# Altium footprint library Battery.PcbLib: 4 footprints
Each footprint in its own frame and in the unit in brackets; x right, y up, seen from the top. Pads: shape width x height; smd on the part's side, far side on the other; paste and mask are expansions set on the pad; w line width, h text height; cw(c..) or ccw(c..) is an arc to the next point about the centre after c.
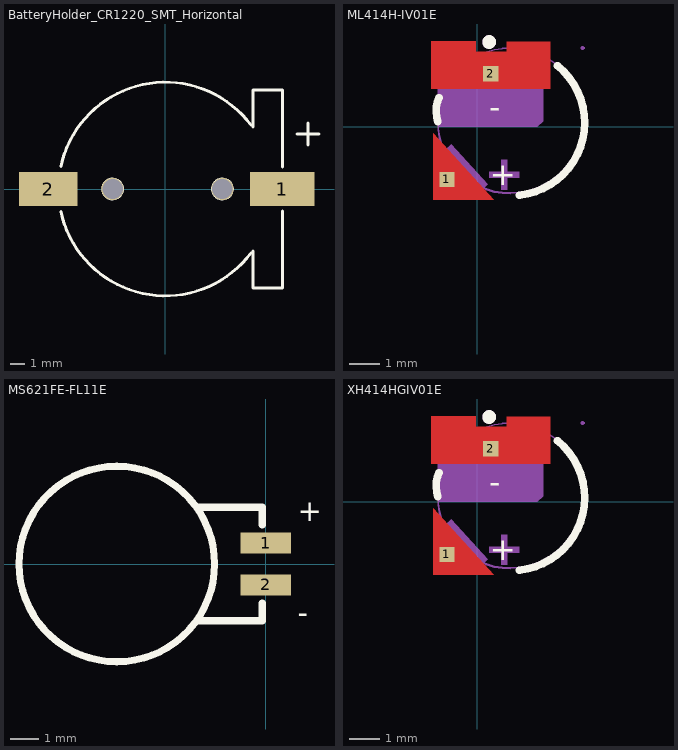
[diagram p0: the footprints below, top view; thin cyan lines are the x and y axes]

## BatteryHolder_CR1220_SMT_Horizontal [mm]
pads (2):
  rect 4.4x2.3 smd: 1(8,0)
  rect 4x2.3 smd: 2(-8,0)
via 3.9,0 diameter 1.5 hole 1.4
via -3.6,0 diameter 1.5 hole 1.4
Top Overlay:
  circle w0.152: c3.9,0 r0.7
  circle w0.152: c-3.6,0 r0.7
  lines w0.203: -7.133,-1.551 ccw(c0,0) 5.852,-4.364 ; -7.133,1.551 cw(c0,0) 5.852,4.364 ; 6,-4.25 6,-6.75 8,-6.75 8,-1.5 ; 6,4.25 6,6.75 8,6.75 8,1.5 ; 9,3.75 10.5,3.75 ; 9.75,3 9.75,4.5
3D body "User Library-cr1220.STEP": height 4.94, standoff 0, extent -9.25,-7.5 9.25,7.497

## ML414H-IV01E [mm]
pads (2):
  rect 0.5x0.5 smd: 1(-1,-1.75) 2(0.454,1.75)
Top Layer:
  region: -1.453,-0.22 -1.453,-2.42 0.546,-2.42 -1.453,-0.217
  region: 2.423,2.815 0.984,2.815 0.984,2.483 -0.049,2.483 -0.049,2.819 -1.516,2.819 -1.516,1.255 2.423,1.255 2.423,1.258
Top Overlay:
  circle w0.254: c0.4,2.8 r0.1
  lines w0.254: -1.299,0.16 cw(c-0.281,0.512) -1.262,0.957 ; 1.405,-2.275 ccw(c1.143,0.131) 2.666,2.012
  text "+" at 0.414,-1.949 h0.76
  text "-" at 0.402,0.272 h0.76
Mechanical 6:
  circle w0.254: c0.4,2.8 r0.1
  region: 0.454,1.869 1.454,1.869 1.454,1.669 0.454,1.669
  region: 0.8,-2.1 0.8,-1.1 1,-1.1 1,-2.1
  region: 0.4,-1.5 1.4,-1.5 1.4,-1.7 0.4,-1.7
Mechanical 15:
  region: -1.3,1.59 -1.3,0 2,0 2.2,0.175 2.2,1.31 2.2,1.59
  region: -1.3,-0.995 -1.3,-1.02 -0.06,-2.245 0.03,-2.245 0.355,-1.905 -0.855,-0.595
  region: -1.295,-0.995 -1.295,-2.245 -0.045,-2.245
  region: 2.205,2.573 1.119,2.574 1.118,2.379 -0.183,2.379 -0.182,2.379 -0.182,2.574 -1.295,2.574 -1.295,1.571 2.205,1.572
  region: 3.56,2.6 3.56,2.625 3.525,2.66 3.475,2.66 3.44,2.625 3.44,2.6 3.44,2.575 3.475,2.54 3.525,2.54 3.56,2.575 3.56,2.6
  lines w0.051: 1.098,-2.231 cw(c1.096,0.173) -1.307,0.173 ccw(c1.096,0.173) 1.098,-2.231 ; 1.098,-2.231 ccw(c1.097,-4.635) 1.096,-2.231 cw(c1.097,-4.635) 1.098,-2.231 ; -1.3,0.2 cw(c1.1,0.2) 1.1,2.6 cw(c1.1,0.2) 3.5,0.2 cw(c1.1,0.2) 1.1,-2.2 cw(c1.1,0.2) -1.3,0.2
3D body "1.stp": height 1.85, standoff 0, extent -1.3,-2.233 3.5,2.577

## MS621FE-FL11E [mm]
pads (2):
  rect 1.8x0.75 smd: 1(0,0.75) 2(0,-0.75)
Top Overlay:
  circle w0.254: c-5.334,0 r3.5
  lines w0.254: -2.413,-2.032 -0.127,-2.032 -0.127,-1.397 ; -2.413,2.032 -0.127,2.032 -0.127,1.397
  text "-" at 1.143,-1.524 h0.76
  text "+" at 1.143,1.524 h0.76
3D body "battery.step": height 2.69, standoff -0.01, extent -8.65,-3.4 0.65,3.4

## XH414HGIV01E [mm]
pads (2):
  rect 0.5x0.5 smd: 1(-1,-1.75) 2(0.454,1.75)
Top Layer:
  region: 2.423,2.815 0.984,2.815 0.984,2.483 -0.049,2.483 -0.049,2.819 -1.516,2.819 -1.516,1.255 2.423,1.255 2.423,1.258
  region: -1.453,-0.22 -1.453,-2.42 0.546,-2.42 -1.453,-0.217
Top Overlay:
  circle w0.254: c0.4,2.8 r0.1
  lines w0.254: -1.299,0.16 cw(c-0.281,0.512) -1.262,0.957 ; 1.405,-2.275 ccw(c1.143,0.131) 2.666,2.012
  text "-" at 0.402,0.272 h0.76
  text "+" at 0.414,-1.949 h0.76
Mechanical 6:
  circle w0.254: c0.4,2.8 r0.1
  region: 0.4,-1.5 1.4,-1.5 1.4,-1.7 0.4,-1.7
  region: 0.8,-2.1 0.8,-1.1 1,-1.1 1,-2.1
  region: 0.454,1.869 1.454,1.869 1.454,1.669 0.454,1.669
Mechanical 15:
  region: 3.56,2.6 3.56,2.625 3.525,2.66 3.475,2.66 3.44,2.625 3.44,2.6 3.44,2.575 3.475,2.54 3.525,2.54 3.56,2.575 3.56,2.6
  region: 2.205,2.573 1.119,2.574 1.118,2.379 -0.183,2.379 -0.182,2.379 -0.182,2.574 -1.295,2.574 -1.295,1.571 2.205,1.572
  region: -1.295,-0.995 -1.295,-2.245 -0.045,-2.245
  region: -1.3,-0.995 -1.3,-1.02 -0.06,-2.245 0.03,-2.245 0.355,-1.905 -0.855,-0.595
  region: -1.3,1.59 -1.3,0 2,0 2.2,0.175 2.2,1.31 2.2,1.59
  lines w0.051: 1.098,-2.231 cw(c1.096,0.173) -1.307,0.173 ccw(c1.096,0.173) 1.098,-2.231 ; 1.098,-2.231 ccw(c1.097,-4.635) 1.096,-2.231 cw(c1.097,-4.635) 1.098,-2.231 ; -1.3,0.2 ccw(c1.1,0.2) 1.1,-2.2 ccw(c1.1,0.2) 3.5,0.2 ccw(c1.1,0.2) 1.1,2.6 ccw(c1.1,0.2) -1.3,0.2
3D body "1.stp": height 1.85, standoff 0, extent -1.3,-2.233 3.5,2.577